# Altium footprint library FUSE_HOLDER_KEYSTONE_3557-2.PcbLib: 1 footprints
Each footprint in its own frame and in the unit in brackets; x right, y up, seen from the top. Pads: shape width x height; smd on the part's side, far side on the other; paste and mask are expansions set on the pad; w line width, h text height; cw(c..) or ccw(c..) is an arc to the next point about the centre after c.
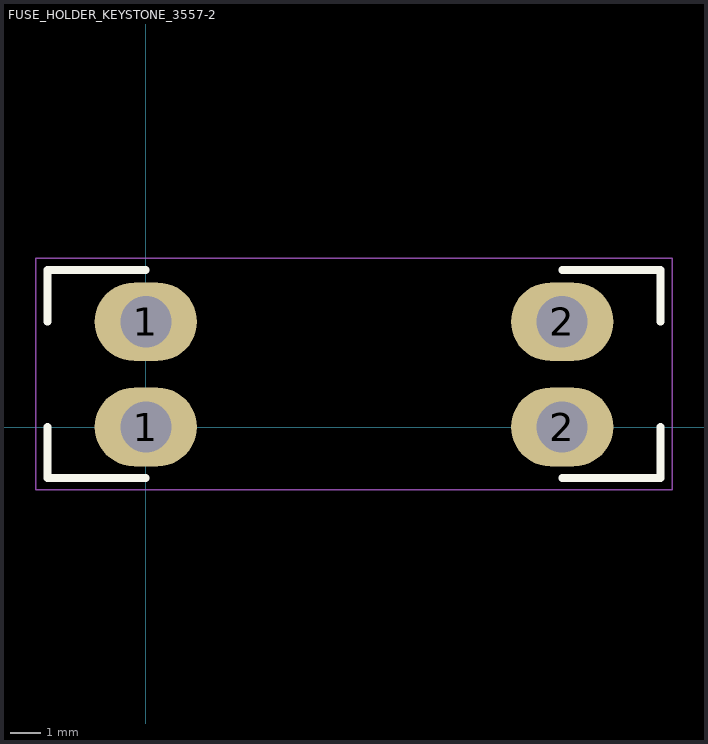
[diagram p0: the footprint, top view; thin cyan lines are the x and y axes]

## FUSE_HOLDER_KEYSTONE_3557-2 [mil]
pads (4):
  oval 130x100 hole 65: 1(0,0) 1(0,134) 2(530,0) 2(530,134)
Top Overlay:
  lines w10: -125,0 -125,-65 0,-65 ; -125,134 -125,200 0,200 ; 530,-65 655,-65 655,0 ; 530,200 655,200 655,134
Mechanical 15:
  lines w1.97: -140,-80 -140,215 670,215 670,-80 -140,-80
Multi-Layer:
  region: -65,134 -65,0 64,0 65,0 65,134
  region: 465,134 465,0 594,0 595,0 595,134
3D body "KEYSTONE-3557-2.SLDPRT": height 290.16, standoff -109.84, extent -124.02,-64.96 655.9,200